# Altium footprint library PHOENIX_1935161.PcbLib: 1 footprints
Each footprint in its own frame and in the unit in brackets; x right, y up, seen from the top. Pads: shape width x height; smd on the part's side, far side on the other; paste and mask are expansions set on the pad; w line width, h text height; cw(c..) or ccw(c..) is an arc to the next point about the centre after c.
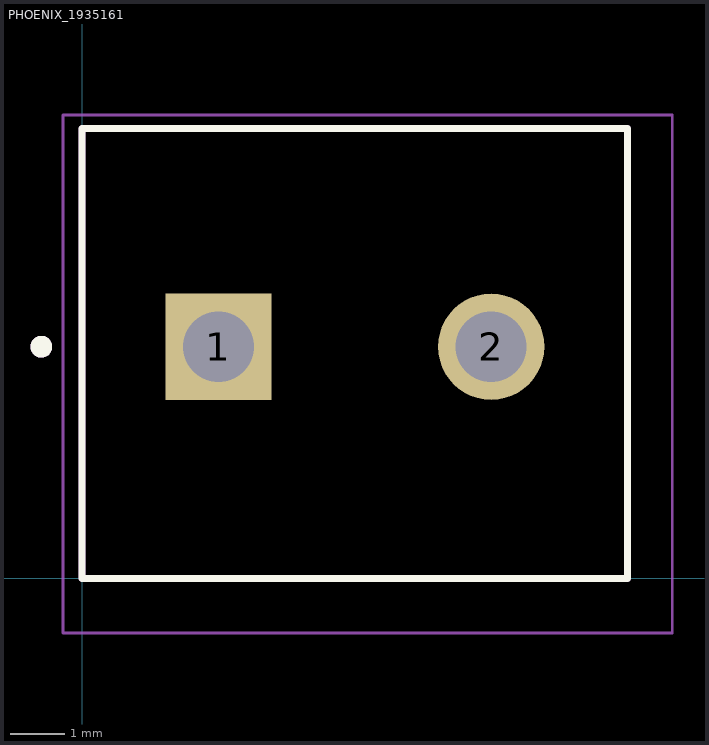
[diagram p0: the footprint, top view; thin cyan lines are the x and y axes]

## PHOENIX_1935161 [mm]
height 11.45
pads (2):
  rect 1.95x1.95 / inner round 1.95 / far side rect 1.95x1.95 hole 1.3: 1(2.5,4.25)
  round 1.95 hole 1.3: 2(7.5,4.25)
Top Overlay:
  circle w0.2: c-0.75,4.25 r0.1
  lines w0.127: 0,0 0,8.25 10,8.25 10,0 0,0
Mechanical 13:
  circle w0.2: c-0.75,4.25 r0.1
  lines w0.127: 0,0 0,8.25 10,8.25 10,0 0,0
Mechanical 15:
  lines w0.05: -0.35,-1 10.82,-1 10.82,8.5 -0.35,8.5 -0.35,-1
3D body "step_temp.STEP": height 11.55, standoff -3.7, extent -0.1,-0.75 10.57,8.25